# Altium footprint library IntegratedCircuites.PcbLib: 74 footprints (part 2 of 5)
Each footprint in its own frame and in the unit in brackets; x right, y up, seen from the top. Pads: shape width x height; smd on the part's side, far side on the other; paste and mask are expansions set on the pad; w line width, h text height; cw(c..) or ccw(c..) is an arc to the next point about the centre after c.
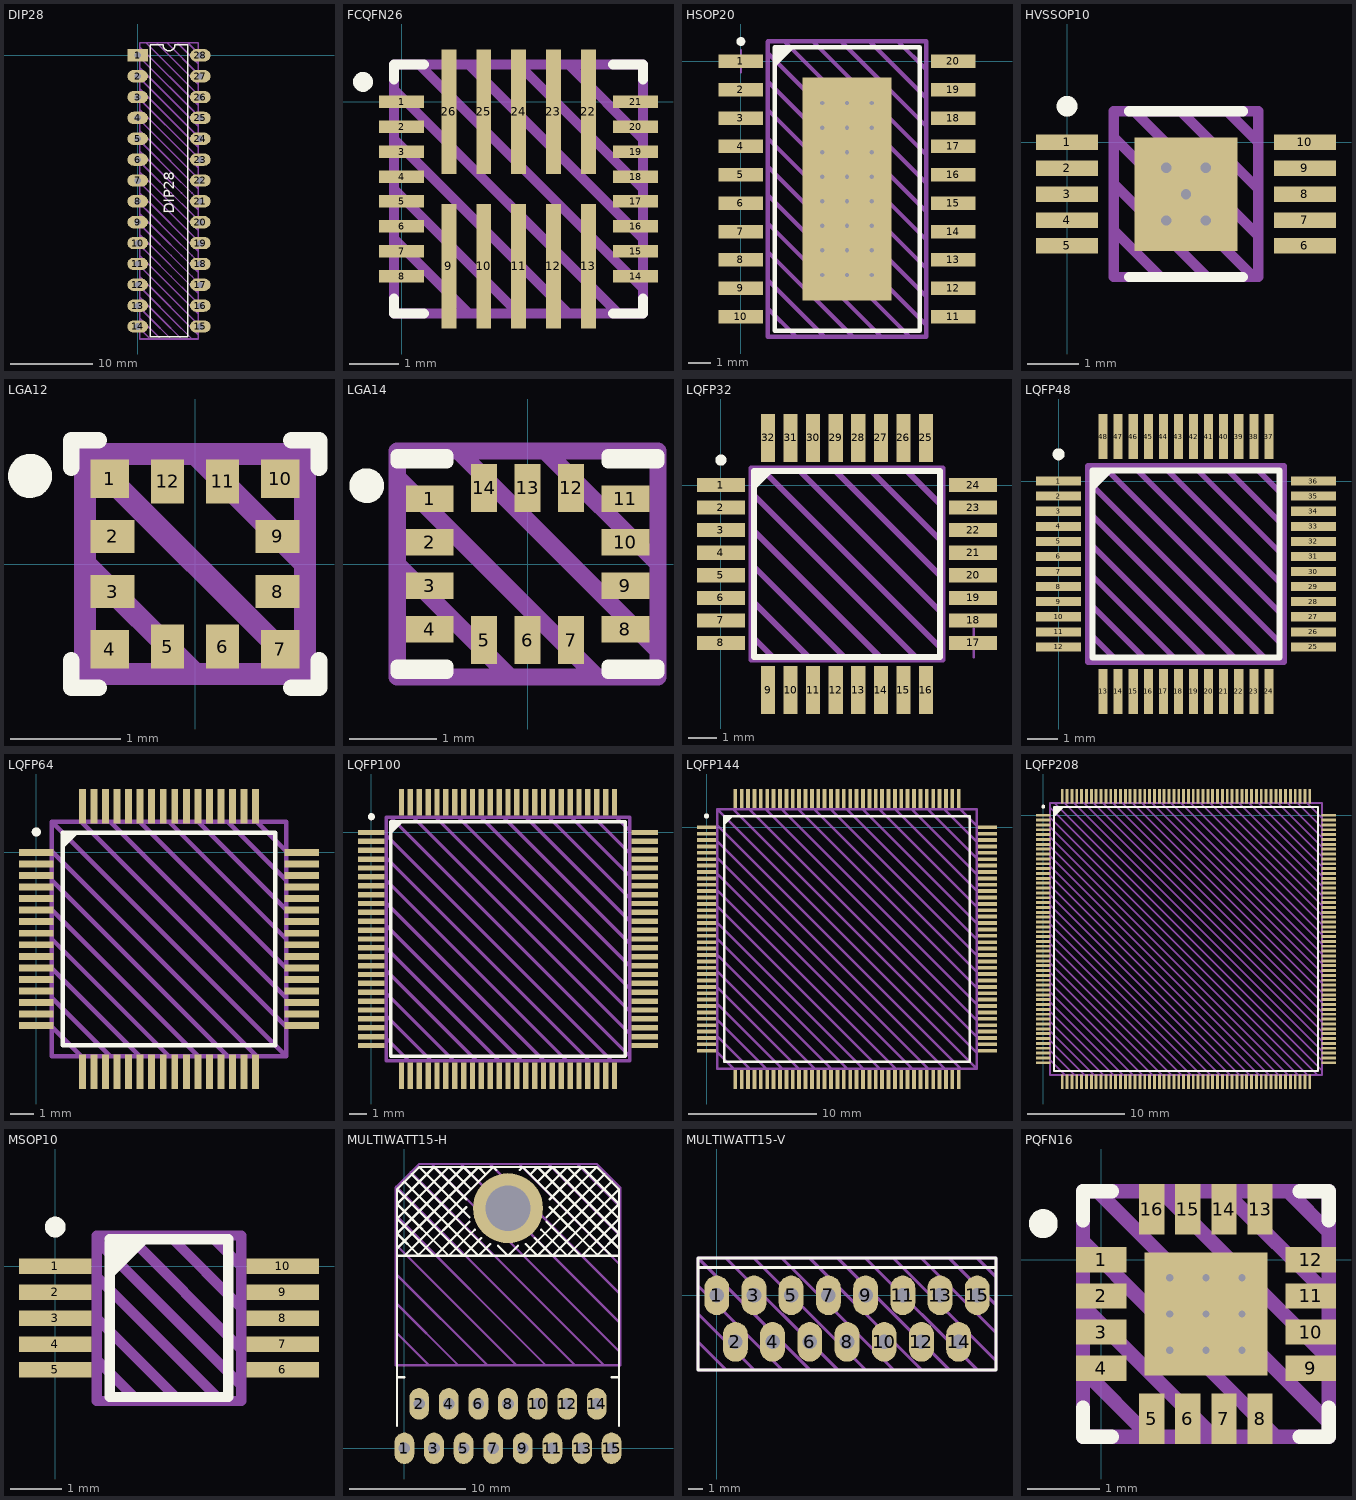
[diagram p1: the footprints below, top view; thin cyan lines are the x and y axes]

## DIP28 [mm]
pads (28):
  rect 2.5x1.5 hole 0.8: 1(0,0)
  oval 2.5x1.5 hole 0.8: 2(0,-2.54) 3(0,-5.08) 4(0,-7.62) 5(0,-10.16) 6(0,-12.7) 7(0,-15.24) 8(0,-17.78) 9(0,-20.32) 10(0,-22.86) 11(0,-25.4) 12(0,-27.94) 13(0,-30.48) 14(0,-33.02) 15(7.62,-33.02) 16(7.62,-30.48) 17(7.62,-27.94) 18(7.62,-25.4) 19(7.62,-22.86) 20(7.62,-20.32) 21(7.62,-17.78) 22(7.62,-15.24) 23(7.62,-12.7) 24(7.62,-10.16) 25(7.62,-7.62) 26(7.62,-5.08) 27(7.62,-2.54) 28(7.62,0)
Top Overlay:
  lines w0.2: 3.048,1.27 1.524,1.27 1.524,-34.29 6.096,-34.29 6.096,1.27 4.572,1.27 ; 3.092,1.27 ccw(c3.81,1.27) 4.528,1.27
  text "DIP28" at 4.445,-19.304 h1.27
Top Draw:
  lines w0.2: 0.254,-33.274 1.524,-34.544 ; 0.254,-32.004 2.794,-34.544 ; 0.254,-30.734 1.524,-32.004 4.064,-34.544 ; 0.254,-29.464 2.794,-32.004 5.334,-34.544 ; 0.254,-28.194 1.524,-29.464 4.064,-32.004 6.604,-34.544 ; 0.254,-26.924 2.794,-29.464 5.334,-32.004 7.366,-34.036 ; 0.254,-25.654 1.524,-26.924 4.064,-29.464 6.604,-32.004 7.366,-32.766 ; 0.254,-24.384 2.794,-26.924 5.334,-29.464 7.366,-31.496 ; 0.254,-23.114 1.524,-24.384 4.064,-26.924 6.604,-29.464 7.366,-30.226 ; 0.254,-21.844 2.794,-24.384 5.334,-26.924 7.366,-28.956 ; 0.254,-20.574 1.524,-21.844 4.064,-24.384 6.604,-26.924 7.366,-27.686 ; 0.254,-19.304 2.794,-21.844 5.334,-24.384 7.366,-26.416 ; 0.254,-18.034 1.524,-19.304 4.064,-21.844 6.604,-24.384 7.366,-25.146 ; 0.254,-16.764 2.794,-19.304 5.334,-21.844 7.366,-23.876 ; 0.254,-15.494 1.524,-16.764 4.064,-19.304 6.604,-21.844 7.366,-22.606 ; 0.254,-14.224 2.794,-16.764 5.334,-19.304 7.366,-21.336 ; 0.254,-12.954 1.524,-14.224 4.064,-16.764 6.604,-19.304 7.366,-20.066 ; 0.254,-11.684 2.794,-14.224 5.334,-16.764 7.366,-18.796 ; 0.254,-10.414 1.524,-11.684 ; 0.254,-9.144 2.794,-11.684 ; 0.254,-7.874 4.064,-11.684 6.604,-14.224 7.366,-14.986 ; 0.254,-6.604 5.334,-11.684 7.366,-13.716 ; 0.254,-5.334 6.604,-11.684 7.366,-12.446 ; 0.254,-4.064 7.366,-11.176 ; 0.254,-2.794 7.366,-9.906 ; 0.254,-1.524 7.366,-8.636 ; 0.254,-0.254 7.366,-7.366 ; 0.254,1.016 7.366,-6.096 ; 1.016,1.524 7.366,-4.826 ; 2.286,1.524 7.366,-3.556 ; 3.556,1.524 7.366,-2.286 ; 4.826,1.524 7.366,-1.016 ; 6.096,1.524 7.366,0.254 ; 7.366,-17.526 6.604,-16.764 4.064,-14.224 ; 7.366,-16.256 5.334,-14.224 ; 2.794,-11.684 5.334,-14.224 ; 2.794,-11.684 5.334,-14.224 ; 4.064,-14.224 1.27,-11.43 4.064,-14.224 ; 0.254,-34.544 7.366,-34.544 7.366,1.524 0.254,1.524 0.254,-34.544
Top Info:
  text "'.Comment'" at -0.381,-35.941 h1
3D body: height 0.38, standoff -3, extent 7.493,-30.734 7.747,-30.226
3D body: height 2.09, standoff 0.31, extent 7.112,-30.98 7.747,-29.98
3D body: height 0.38, standoff -3, extent 7.493,-33.274 7.747,-32.766
3D body: height 2.09, standoff 0.31, extent 7.112,-33.52 7.747,-32.52
3D body: height 0.38, standoff -3, extent -0.127,-33.274 0.127,-32.766
3D body: height 2.09, standoff 0.31, extent -0.127,-33.52 0.508,-32.52
3D body: height 0.38, standoff -3, extent -0.127,-30.734 0.127,-30.226
3D body: height 2.09, standoff 0.31, extent -0.127,-30.98 0.508,-29.98
3D body: height 0.38, standoff -3, extent 7.493,-20.574 7.747,-20.066
3D body: height 2.09, standoff 0.31, extent 7.112,-20.82 7.747,-19.82
3D body: height 0.38, standoff -3, extent 7.493,-23.114 7.747,-22.606
3D body: height 2.09, standoff 0.31, extent 7.112,-23.36 7.747,-22.36
3D body: height 0.38, standoff -3, extent -0.127,-23.114 0.127,-22.606
3D body: height 2.09, standoff 0.31, extent -0.127,-23.36 0.508,-22.36
3D body: height 0.38, standoff -3, extent -0.127,-20.574 0.127,-20.066
3D body: height 2.09, standoff 0.31, extent -0.127,-20.82 0.508,-19.82
3D body: height 0.38, standoff -3, extent 7.493,-25.654 7.747,-25.146
3D body: height 2.09, standoff 0.31, extent 7.112,-25.9 7.747,-24.9
3D body: height 0.38, standoff -3, extent 7.493,-28.194 7.747,-27.686
3D body: height 2.09, standoff 0.31, extent 7.112,-28.44 7.747,-27.44
3D body: height 0.38, standoff -3, extent -0.127,-28.194 0.127,-27.686
3D body: height 2.09, standoff 0.31, extent -0.127,-28.44 0.508,-27.44
3D body: height 0.38, standoff -3, extent -0.127,-25.654 0.127,-25.146
3D body: height 2.09, standoff 0.31, extent -0.127,-25.9 0.508,-24.9
3D body: height 0.38, standoff -3, extent 7.493,-10.414 7.747,-9.906
3D body: height 2.09, standoff 0.31, extent 7.112,-10.66 7.747,-9.66
3D body: height 0.38, standoff -3, extent 7.493,-12.954 7.747,-12.446
3D body: height 2.09, standoff 0.31, extent 7.112,-13.2 7.747,-12.2
3D body: height 0.38, standoff -3, extent -0.127,-12.954 0.127,-12.446
3D body: height 2.09, standoff 0.31, extent -0.127,-13.2 0.508,-12.2
3D body: height 0.38, standoff -3, extent -0.127,-10.414 0.127,-9.906
3D body: height 2.09, standoff 0.31, extent -0.127,-10.66 0.508,-9.66
3D body: height 0.38, standoff -3, extent 7.493,-15.494 7.747,-14.986
3D body: height 2.09, standoff 0.31, extent 7.112,-15.74 7.747,-14.74
3D body: height 0.38, standoff -3, extent 7.493,-18.034 7.747,-17.526
3D body: height 2.09, standoff 0.31, extent 7.112,-18.28 7.747,-17.28
3D body: height 0.38, standoff -3, extent -0.127,-18.034 0.127,-17.526
3D body: height 2.09, standoff 0.31, extent -0.127,-18.28 0.508,-17.28
3D body: height 0.38, standoff -3, extent -0.127,-15.494 0.127,-14.986
3D body: height 2.09, standoff 0.31, extent -0.127,-15.74 0.508,-14.74
3D body: height 0.38, standoff -3, extent 7.493,-0.254 7.747,0.254
3D body: height 2.09, standoff 0.31, extent 7.112,-0.5 7.747,0.5
3D body: height 0.38, standoff -3, extent 7.493,-2.794 7.747,-2.286
3D body: height 2.09, standoff 0.31, extent 7.112,-3.04 7.747,-2.04
3D body: height 0.38, standoff -3, extent -0.127,-2.794 0.127,-2.286
3D body: height 2.09, standoff 0.31, extent -0.127,-3.04 0.508,-2.04
3D body: height 0.38, standoff -3, extent -0.127,-0.254 0.127,0.254
3D body: height 2.09, standoff 0.31, extent -0.127,-0.5 0.508,0.5
3D body: height 0.38, standoff -3, extent 7.493,-5.334 7.747,-4.826
3D body: height 2.09, standoff 0.31, extent 7.112,-5.58 7.747,-4.58
3D body: height 0.38, standoff -3, extent 7.493,-7.874 7.747,-7.366
3D body: height 2.09, standoff 0.31, extent 7.112,-8.12 7.747,-7.12
3D body: height 0.38, standoff -3, extent -0.127,-7.874 0.127,-7.366
3D body: height 2.09, standoff 0.31, extent -0.127,-8.12 0.508,-7.12
3D body: height 0.38, standoff -3, extent -0.127,-5.334 0.127,-4.826
3D body: height 2.09, standoff 0.31, extent -0.127,-5.58 0.508,-4.58
3D body: height 2.03, standoff 0.25, extent 0.508,-34.29 7.112,1.27
3D body: height 3, standoff 2, extent 0.508,-34.29 7.112,1.27

## FCQFN26 [mm]
pads (26):
  rect 0.9x0.25 smd mask+0.07: 1(0,0) 2(0,-0.5) 3(0,-1) 4(0,-1.5) 5(0,-2) 6(0,-2.5) 7(0,-3) 8(0,-3.5) 14(4.7,-3.5) 15(4.7,-3) 16(4.7,-2.5) 17(4.7,-2) 18(4.7,-1.5) 19(4.7,-1) 20(4.7,-0.5) 21(4.7,0)
  rect 0.3x2.5 smd mask+0.07: 9(0.95,-3.3) 10(1.65,-3.3) 11(2.35,-3.3) 12(3.05,-3.3) 13(3.75,-3.3) 22(3.75,-0.2) 23(3.05,-0.2) 24(2.35,-0.2) 25(1.65,-0.2) 26(0.95,-0.2)
Top Overlay:
  circle w0.2: c-0.775,0.4 r0.1
  lines w0.2: -0.15,-3.95 -0.15,-4.25 0.45,-4.25 ; -0.15,0.45 -0.15,0.75 0.45,0.75 ; 4.25,-4.25 4.85,-4.25 4.85,-3.95 ; 4.25,0.75 4.85,0.75 4.85,0.45
Top Draw:
  lines w0.2: -0.15,-2.75 1.35,-4.25 ; -0.15,-1.75 2.35,-4.25 ; -0.15,-0.75 3.35,-4.25 ; -0.15,0.25 4.35,-4.25 ; 0.35,0.75 4.85,-3.75 ; 1.35,0.75 4.85,-2.75 ; 2.35,0.75 4.85,-1.75 ; 3.35,0.75 4.85,-0.75 ; -0.15,-4.25 -0.15,0.75 4.85,0.75 4.85,-4.25 -0.15,-4.25
Top Info:
  text "'.Comment'" at -1.049,-5.767 h0.8
3D body "MP6540H.step": height 1, standoff 0, extent -0.15,-4.25 4.85,0.75

## HSOP20 [mm]
height 2.5
pads (21):
  rect 2x0.6 smd: 1(0,0) 2(0,-1.27) 3(0,-2.54) 4(0,-3.81) 5(0,-5.08) 6(0,-6.35) 7(0,-7.62) 8(0,-8.89) 9(0,-10.16) 10(0,-11.43) 11(9.5,-11.43) 12(9.5,-10.16) 13(9.5,-8.89) 14(9.5,-7.62) 15(9.5,-6.35) 16(9.5,-5.08) 17(9.5,-3.81) 18(9.5,-2.54) 19(9.5,-1.27) 20(9.5,0)
  rect 4x10 smd: ""(4.75,-5.715)
via 3.65,-9.565 diameter 0.5 hole 0.2
via 4.75,-9.565 diameter 0.5 hole 0.2
via 5.85,-9.565 diameter 0.5 hole 0.2
via 3.65,-8.465 diameter 0.5 hole 0.2
via 4.75,-8.465 diameter 0.5 hole 0.2
via 5.85,-8.465 diameter 0.5 hole 0.2
via 3.65,-1.865 diameter 0.5 hole 0.2
via 4.75,-1.865 diameter 0.5 hole 0.2
via 5.85,-1.865 diameter 0.5 hole 0.2
via 3.65,-2.965 diameter 0.5 hole 0.2
via 4.75,-2.965 diameter 0.5 hole 0.2
via 5.85,-2.965 diameter 0.5 hole 0.2
via 3.65,-4.065 diameter 0.5 hole 0.2
via 4.75,-4.065 diameter 0.5 hole 0.2
via 5.85,-4.065 diameter 0.5 hole 0.2
via 3.65,-5.165 diameter 0.5 hole 0.2
via 4.75,-5.165 diameter 0.5 hole 0.2
via 5.85,-5.165 diameter 0.5 hole 0.2
via 3.65,-6.265 diameter 0.5 hole 0.2
via 4.75,-6.265 diameter 0.5 hole 0.2
via 5.85,-6.265 diameter 0.5 hole 0.2
via 3.65,-7.365 diameter 0.5 hole 0.2
via 4.75,-7.365 diameter 0.5 hole 0.2
via 5.85,-7.365 diameter 0.5 hole 0.2
Top Overlay:
  circle w0.2: c0,0.889 r0.1
  region: 1.524,-0.254 2.413,0.635 1.524,0.635
  lines w0.2: 1.524,-12.065 1.524,0.635 8.001,0.635 8.001,-12.065 1.524,-12.065
Top Draw:
  lines w0.2: 1.194,-11.049 2.464,-12.319 ; 1.194,-9.779 3.734,-12.319 ; 1.194,-8.509 5.004,-12.319 ; 1.194,-7.239 6.274,-12.319 ; 1.194,-5.969 7.544,-12.319 ; 1.194,-4.699 8.306,-11.811 ; 1.194,-3.429 8.306,-10.541 ; 1.194,-2.159 8.306,-9.271 ; 1.194,-0.889 8.306,-8.001 ; 1.194,0.381 8.306,-6.731 ; 1.194,0.87 1.194,-12.319 8.306,-12.319 8.306,0.889 1.213,0.889 ; 1.956,0.889 8.306,-5.461 ; 3.226,0.889 8.306,-4.191 ; 4.496,0.889 8.306,-2.921 ; 5.766,0.889 8.306,-1.651 ; 7.036,0.889 8.306,-0.381
Top Info:
  text "'.Comment'" at 0.559,-13.716 h1
Mechanical 15:
  lines w0.1: -0.5,0 0.5,0 ; 0,-0.5 0,0.5
3D body "SOP127P600-8N.step": height 2.5, standoff 0, extent -0.45,-12.215 9.95,0.785

## HVSSOP10 [mm]
height 1.1
pads (11):
  rect 1.2x0.3 smd: 1(0,0) 2(0,-0.5) 3(0,-1) 4(0,-1.5) 5(0,-2) 6(4.6,-2) 7(4.6,-1.5) 8(4.6,-1) 9(4.6,-0.5) 10(4.6,0)
  rect 2x2.2 smd: ""(2.3,-1)
via 1.919,-0.492 diameter 0.4 hole 0.2
via 2.681,-0.492 diameter 0.4 hole 0.2
via 2.681,-1.508 diameter 0.4 hole 0.2
via 1.919,-1.508 diameter 0.4 hole 0.2
via 2.3,-1 diameter 0.4 hole 0.2
Top Overlay:
  circle w0.2: c0,0.7 r0.1
  lines w0.2: 1.2,-2.6 3.4,-2.6 ; 1.2,0.6 3.4,0.6
Top Draw:
  lines w0.2: 0.9,-1.7 1.8,-2.6 ; 0.9,-0.8 2.7,-2.6 ; 0.9,0.1 3.6,-2.6 ; 1.3,0.6 3.7,-1.8 ; 2.2,0.6 3.7,-0.9 ; 3.1,0.6 3.7,0 ; 0.9,-2.6 0.9,0.6 3.7,0.6 3.7,-2.6 0.9,-2.6
Top Info:
  text "'.Comment'" at -0.886,-3.737 h0.75
3D body "HVSSOP10.step": height 1.1, standoff 0, extent -0.162,-2.55 4.763,0.55

## LGA12 [mm]
pads (12):
  rect 0.35x0.35 smd paste+0: 1(-0.775,0.775) 4(-0.775,-0.775) 7(0.775,-0.775) 10(0.775,0.775)
  rect 0.4x0.3 smd paste+0: 2(-0.75,0.25) 3(-0.75,-0.25) 8(0.75,-0.25) 9(0.75,0.25)
  rect 0.3x0.4 smd paste+0: 5(-0.25,-0.75) 6(0.25,-0.75) 11(0.25,0.75) 12(-0.25,0.75)
Top Overlay:
  circle w0.2: c-1.5,0.8 r0.1
  lines w0.15: -1.125,-0.875 -1.125,-1.125 -0.875,-1.125 ; -1.125,0.875 -1.125,1.125 -0.875,1.125 ; 0.875,-1.125 1.125,-1.125 1.125,-0.875 ; 0.875,1.125 1.125,1.125 1.125,0.875
Top Draw:
  lines w0.2: -1,0 0,-1 ; 0,1 1,0 ; -1,1 1,-1 ; -1,1 -1,-1 1,-1 ; -1,1 1,1 1,-1
Top Info:
  text "'.Comment'" at -2.124,-1.892 h0.5
3D body "VLGA-12_MEM.step": height 0.99, standoff 0, extent -1.003,-1.003 1.003,1.003

## LGA14 [mm]
height 1
pads (14):
  rect 0.55x0.3 smd: 1(-1.125,0.75) 2(-1.125,0.25) 3(-1.125,-0.25) 4(-1.125,-0.75) 8(1.125,-0.75) 9(1.125,-0.25) 10(1.125,0.25) 11(1.125,0.75)
  rect 0.3x0.55 smd: 5(-0.5,-0.875) 6(0,-0.875) 7(0.5,-0.875) 12(0.5,0.875) 13(0,0.875) 14(-0.5,0.875)
Top Overlay:
  circle w0.2: c-1.85,0.9 r0.1
  lines w0.15: -1.5,-1.25 -1.5,-1.175 -0.925,-1.175 -0.925,-1.25 -1.5,-1.25 ; -1.5,1.175 -1.5,1.25 -0.925,1.25 -0.925,1.175 -1.5,1.175 ; 0.925,-1.25 0.925,-1.175 1.5,-1.175 1.5,-1.25 0.925,-1.25 ; 0.925,1.175 0.925,1.25 1.5,1.25 1.5,1.175 0.925,1.175
Top Draw:
  lines w0.2: -1.5,0 -0.2,-1.3 ; -1.5,1 0.8,-1.3 ; -0.8,1.3 1.5,-1 ; 0.2,1.3 1.5,0 ; -1.5,-1.3 -1.5,1.3 1.5,1.3 1.5,-1.3 -1.5,-1.3
Top Info:
  text "'.Comment'" at -3.186,-2.337 h0.75
3D body "PQFN50P300X250X100-14N.step": height 1, standoff 0, extent -1.5,-1.25 1.5,1.25

## LQFP32 [mm]
pads (32):
  rect 1.7x0.5 smd: 1(0,0) 2(0,-0.8) 3(0,-1.6) 4(0,-2.4) 5(0,-3.2) 6(0,-4) 7(0,-4.8) 8(0,-5.6) 17(8.95,-5.6) 18(8.95,-4.8) 19(8.95,-4) 20(8.95,-3.2) 21(8.95,-2.4) 22(8.95,-1.6) 23(8.95,-0.8) 24(8.95,0)
  rect 0.5x1.7 smd: 9(1.675,-7.275) 10(2.475,-7.275) 11(3.275,-7.275) 12(4.075,-7.275) 13(4.875,-7.275) 14(5.675,-7.275) 15(6.475,-7.275) 16(7.275,-7.275) 25(7.275,1.675) 26(6.475,1.675) 27(5.675,1.675) 28(4.875,1.675) 29(4.075,1.675) 30(3.275,1.675) 31(2.475,1.675) 32(1.675,1.675)
Top Overlay:
  circle w0.2: c0,0.889 r0.1
  region: 1.175,0.5 1.175,-0.188 1.863,0.5
  lines w0.2: 1.175,-6.1 1.175,0.5 7.775,0.5 7.775,-6.1 1.175,-6.1
Top Draw:
  lines w0.2: 1.075,-5.34 1.935,-6.2 ; 1.075,-4.07 3.205,-6.2 ; 1.075,-2.8 4.475,-6.2 ; 1.075,-1.53 5.745,-6.2 ; 1.075,-0.26 7.015,-6.2 ; 1.427,0.6 7.875,-5.848 ; 2.697,0.6 7.875,-4.578 ; 3.967,0.6 7.875,-3.308 ; 5.237,0.6 7.875,-2.038 ; 6.507,0.6 7.875,-0.768 7.875,-1.022 ; 7.875,-2.038 7.875,-2.038 ; 1.075,-6.2 1.075,0.6 7.875,0.6 7.875,-6.2 1.075,-6.2
Top Info:
  text "'.Comment'" at 1.314,-9.237 h0.75
Mechanical 15:
  lines w0.1: 8.475,-5.6 9.475,-5.6 ; 8.975,-6.1 8.975,-5.1
3D body "LQFP322.step": height 1.6, standoff 0, extent -0.375,-7.65 9.325,2.05

## LQFP48 [mm]
height 1.6
pads (48):
  rect 1.5x0.3 smd: 1(0,0) 2(0,-0.5) 3(0,-1) 4(0,-1.5) 5(0,-2) 6(0,-2.5) 7(0,-3) 8(0,-3.5) 9(0,-4) 10(0,-4.5) 11(0,-5) 12(0,-5.5) 25(8.45,-5.5) 26(8.45,-5) 27(8.45,-4.5) 28(8.45,-4) 29(8.45,-3.5) 30(8.45,-3) 31(8.45,-2.5) 32(8.45,-2) 33(8.45,-1.5) 34(8.45,-1) 35(8.45,-0.5) 36(8.45,0)
  rect 0.3x1.5 smd: 13(1.475,-6.975) 14(1.975,-6.975) 15(2.475,-6.975) 16(2.975,-6.975) 17(3.475,-6.975) 18(3.975,-6.975) 19(4.475,-6.975) 20(4.975,-6.975) 21(5.475,-6.975) 22(5.975,-6.975) 23(6.475,-6.975) 24(6.975,-6.975) 37(6.975,1.475) 38(6.475,1.475) 39(5.975,1.475) 40(5.475,1.475) 41(4.975,1.475) 42(4.475,1.475) 43(3.975,1.475) 44(3.475,1.475) 45(2.975,1.475) 46(2.475,1.475) 47(1.975,1.475) 48(1.475,1.475)
Top Overlay:
  circle w0.2: c0,0.889 r0.1
  region: 1.125,0.35 1.125,-0.338 1.813,0.35
  lines w0.2: 1.125,-5.85 1.125,0.35 7.325,0.35 7.325,-5.85 1.125,-5.85
Top Draw:
  lines w0.2: 0.975,-5 1.975,-6 2.475,-6 ; 0.975,-4 2.975,-6 3.225,-6 ; 0.975,-3 3.975,-6 4.225,-6 ; 0.975,-2 4.975,-6 5.225,-6 ; 0.975,-1 5.975,-6 6.225,-6 ; 0.975,0 6.975,-6 7.225,-6 ; 1.475,0.5 7.475,-5.5 7.475,-5.75 ; 1.725,0.5 2.475,0.5 7.475,-4.5 ; 3.475,0.5 7.475,-3.5 7.475,-4 ; 4.475,0.5 7.475,-2.5 7.475,-4.25 ; 5.475,0.5 7.475,-1.5 ; 6.475,0.5 7.475,-0.5 ; 0.975,-6 7.475,-6 7.475,0.5 0.975,0.5 0.975,-6
Top Info:
  text "'.Comment'" at -0.22,-9.227 h1
3D body "LQFP48.step": height 1.6, standoff 0, extent -0.275,-7.25 8.725,1.75

## LQFP64 [mm]
height 1.6
pads (64):
  rect 1.5x0.3 smd: 1(0,0) 2(0,-0.5) 3(0,-1) 4(0,-1.5) 5(0,-2) 6(0,-2.5) 7(0,-3) 8(0,-3.5) 9(0,-4) 10(0,-4.5) 11(0,-5) 12(0,-5.5) 13(0,-6) 14(0,-6.5) 15(0,-7) 16(0,-7.5) 33(11.5,-7.5) 34(11.5,-7) 35(11.5,-6.5) 36(11.5,-6) 37(11.5,-5.5) 38(11.5,-5) 39(11.5,-4.5) 40(11.5,-4) 41(11.5,-3.5) 42(11.5,-3) 43(11.5,-2.5) 44(11.5,-2) 45(11.5,-1.5) 46(11.5,-1) 47(11.5,-0.5) 48(11.5,0)
  rect 0.3x1.5 smd: 17(2,-9.5) 18(2.5,-9.5) 19(3,-9.5) 20(3.5,-9.5) 21(4,-9.5) 22(4.5,-9.5) 23(5,-9.5) 24(5.5,-9.5) 25(6,-9.5) 26(6.5,-9.5) 27(7,-9.5) 28(7.5,-9.5) 29(8,-9.5) 30(8.5,-9.5) 31(9,-9.5) 32(9.5,-9.5) 49(9.5,2) 50(9,2) 51(8.5,2) 52(8,2) 53(7.5,2) 54(7,2) 55(6.5,2) 56(6,2) 57(5.5,2) 58(5,2) 59(4.5,2) 60(4,2) 61(3.5,2) 62(3,2) 63(2.5,2) 64(2,2)
Top Overlay:
  circle w0.2: c0,0.889 r0.1
  region: 1.15,0.85 1.15,0.162 1.838,0.85
  lines w0.2: 1.15,-8.35 10.35,-8.35 10.35,0.85 1.15,0.85 1.15,-8.35
Top Draw:
  lines w0.2: 0.67,-7.56 1.94,-8.83 0.67,-8.83 ; 0.67,-6.29 3.21,-8.83 ; 0.67,-5.02 4.48,-8.83 5.75,-8.83 0.67,-3.75 ; 0.67,-2.48 7.02,-8.83 8.29,-8.83 0.67,-1.21 ; 0.67,0.06 9.56,-8.83 ; 1.94,1.33 10.83,-7.56 10.83,-6.29 ; 3.21,1.33 10.83,-6.29 ; 4.48,1.33 10.83,-5.02 ; 5.75,1.33 10.83,-3.75 10.83,-5.02 ; 7.02,1.33 10.83,-2.48 ; 8.29,1.33 10.83,-1.21 10.83,-2.48 ; 9.56,1.33 10.83,0.06 ; 0.67,-8.83 0.67,1.33 ; 0.67,-8.83 10.83,-8.83 ; 0.67,1.33 10.83,1.33 10.83,-8.83 ; 0.67,1.33 10.83,-8.83 ; 10.83,-6.29 10.83,-5.02 ; 10.83,-5.02 10.83,-2.48
Top Info:
  text "'.Comment'" at 0.762,-11.684 h1
3D body "QFP127P600-8N.step": height 1.6, standoff 0, extent -0.25,-9.75 11.75,2.25

## LQFP100 [mm]
height 1.6
pads (100):
  rect 1.5x0.3 smd: 1(0,0) 2(0,-0.5) 3(0,-1) 4(0,-1.5) 5(0,-2) 6(0,-2.5) 7(0,-3) 8(0,-3.5) 9(0,-4) 10(0,-4.5) 11(0,-5) 12(0,-5.5) 13(0,-6) 14(0,-6.5) 15(0,-7) 16(0,-7.5) 17(0,-8) 18(0,-8.5) 19(0,-9) 20(0,-9.5) 21(0,-10) 22(0,-10.5) 23(0,-11) 24(0,-11.5) 25(0,-12) 51(15.4,-12) 52(15.4,-11.5) 53(15.4,-11) 54(15.4,-10.5) 55(15.4,-10) 56(15.4,-9.5) 57(15.4,-9) 58(15.4,-8.5) 59(15.4,-8) 60(15.4,-7.5) 61(15.4,-7) 62(15.4,-6.5) 63(15.4,-6) 64(15.4,-5.5) 65(15.4,-5) 66(15.4,-4.5) 67(15.4,-4) 68(15.4,-3.5) 69(15.4,-3) 70(15.4,-2.5) 71(15.4,-2) 72(15.4,-1.5) 73(15.4,-1) 74(15.4,-0.5) 75(15.4,0)
  rect 0.3x1.5 smd: 26(1.7,-13.7) 27(2.2,-13.7) 28(2.7,-13.7) 29(3.2,-13.7) 30(3.7,-13.7) 31(4.2,-13.7) 32(4.7,-13.7) 33(5.2,-13.7) 34(5.7,-13.7) 35(6.2,-13.7) 36(6.7,-13.7) 37(7.2,-13.7) 38(7.7,-13.7) 39(8.2,-13.7) 40(8.7,-13.7) 41(9.2,-13.7) 42(9.7,-13.7) 43(10.2,-13.7) 44(10.7,-13.7) 45(11.2,-13.7) 46(11.7,-13.7) 47(12.2,-13.7) 48(12.7,-13.7) 49(13.2,-13.7) 50(13.7,-13.7) 76(13.7,1.7) 77(13.2,1.7) 78(12.7,1.7) 79(12.2,1.7) 80(11.7,1.7) 81(11.2,1.7) 82(10.7,1.7) 83(10.2,1.7) 84(9.7,1.7) 85(9.2,1.7) 86(8.7,1.7) 87(8.2,1.7) 88(7.7,1.7) 89(7.2,1.7) 90(6.7,1.7) 91(6.2,1.7) 92(5.7,1.7) 93(5.2,1.7) 94(4.7,1.7) 95(4.2,1.7) 96(3.7,1.7) 97(3.2,1.7) 98(2.7,1.7) 99(2.2,1.7) 100(1.7,1.7)
Top Overlay:
  circle w0.2: c0,0.889 r0.1
  region: 1.1,0.6 1.1,-0.088 1.788,0.6
  lines w0.2: 1.1,-12.6 1.1,0.6 14.3,0.6 14.3,-12.6 1.1,-12.6
Top Draw:
  lines w0.2: 0.842,-11.588 2.112,-12.858 ; 0.842,-10.318 3.382,-12.858 ; 0.842,-9.048 4.652,-12.858 ; 0.842,-7.778 5.922,-12.858 ; 0.842,-6.508 7.192,-12.858 ; 0.842,-5.238 8.462,-12.858 ; 0.842,-3.968 9.732,-12.858 ; 0.842,-2.698 11.002,-12.858 ; 0.842,-1.428 12.272,-12.858 ; 0.842,-0.158 13.542,-12.858 ; 1.096,0.858 14.558,-12.604 ; 2.366,0.858 14.558,-11.334 ; 3.636,0.858 14.558,-10.064 ; 4.906,0.858 14.558,-8.794 ; 6.176,0.858 14.558,-7.524 ; 7.446,0.858 14.558,-6.254 ; 8.716,0.858 14.558,-4.984 ; 9.986,0.858 14.558,-3.714 ; 11.256,0.858 14.558,-2.444 ; 12.526,0.858 14.558,-1.174 ; 13.796,0.858 14.558,0.096 ; 0.842,-12.858 14.558,-12.858 14.558,0.858 0.842,0.858 0.842,-12.858
Top Info:
  text "'.Comment'" at 0.461,-16.16 h1.25
3D body "LQFP100.step": height 1.6, standoff 0, extent -0.3,-14 15.7,2

## LQFP144 [mm]
height 1.6
pads (144):
  rect 1.5x0.3 smd: 1(0,0) 2(0,-0.5) 3(0,-1) 4(0,-1.5) 5(0,-2) 6(0,-2.5) 7(0,-3) 8(0,-3.5) 9(0,-4) 10(0,-4.5) 11(0,-5) 12(0,-5.5) 13(0,-6) 14(0,-6.5) 15(0,-7) 16(0,-7.5) 17(0,-8) 18(0,-8.5) 19(0,-9) 20(0,-9.5) 21(0,-10) 22(0,-10.5) 23(0,-11) 24(0,-11.5) 25(0,-12) 26(0,-12.5) 27(0,-13) 28(0,-13.5) 29(0,-14) 30(0,-14.5) 31(0,-15) 32(0,-15.5) 33(0,-16) 34(0,-16.5) 35(0,-17) 36(0,-17.5) 73(22,-17.5) 74(22,-17) 75(22,-16.5) 76(22,-16) 77(22,-15.5) 78(22,-15) 79(22,-14.5) 80(22,-14) 81(22,-13.5) 82(22,-13) 83(22,-12.5) 84(22,-12) 85(22,-11.5) 86(22,-11) 87(22,-10.5) 88(22,-10) 89(22,-9.5) 90(22,-9) 91(22,-8.5) 92(22,-8) 93(22,-7.5) 94(22,-7) 95(22,-6.5) 96(22,-6) 97(22,-5.5) 98(22,-5) 99(22,-4.5) 100(22,-4) 101(22,-3.5) 102(22,-3) 103(22,-2.5) 104(22,-2) 105(22,-1.5) 106(22,-1) 107(22,-0.5) 108(22,0)
  rect 0.3x1.5 smd: 37(2.25,-19.75) 38(2.75,-19.75) 39(3.25,-19.75) 40(3.75,-19.75) 41(4.25,-19.75) 42(4.75,-19.75) 43(5.25,-19.75) 44(5.75,-19.75) 45(6.25,-19.75) 46(6.75,-19.75) 47(7.25,-19.75) 48(7.75,-19.75) 49(8.25,-19.75) 50(8.75,-19.75) 51(9.25,-19.75) 52(9.75,-19.75) 53(10.25,-19.75) 54(10.75,-19.75) 55(11.25,-19.75) 56(11.75,-19.75) 57(12.25,-19.75) 58(12.75,-19.75) 59(13.25,-19.75) 60(13.75,-19.75) 61(14.25,-19.75) 62(14.75,-19.75) 63(15.25,-19.75) 64(15.75,-19.75) 65(16.25,-19.75) 66(16.75,-19.75) 67(17.25,-19.75) 68(17.75,-19.75) 69(18.25,-19.75) 70(18.75,-19.75) 71(19.25,-19.75) 72(19.75,-19.75) 109(19.75,2.25) 110(19.25,2.25) 111(18.75,2.25) 112(18.25,2.25) 113(17.75,2.25) 114(17.25,2.25) 115(16.75,2.25) 116(16.25,2.25) 117(15.75,2.25) 118(15.25,2.25) 119(14.75,2.25) 120(14.25,2.25) 121(13.75,2.25) 122(13.25,2.25) 123(12.75,2.25) 124(12.25,2.25) 125(11.75,2.25) 126(11.25,2.25) 127(10.75,2.25) 128(10.25,2.25) 129(9.75,2.25) 130(9.25,2.25) 131(8.75,2.25) 132(8.25,2.25) 133(7.75,2.25) 134(7.25,2.25) 135(6.75,2.25) 136(6.25,2.25) 137(5.75,2.25) 138(5.25,2.25) 139(4.75,2.25) 140(4.25,2.25) 141(3.75,2.25) 142(3.25,2.25) 143(2.75,2.25) 144(2.25,2.25)
Top Overlay:
  circle w0.2: c0,0.889 r0.1
  region: 1.4,0.85 1.4,0.162 2.088,0.85
  lines w0.2: 1.4,-18.35 1.4,0.85 20.6,0.85 20.6,-18.35 1.4,-18.35
Top Draw:
  lines w0.2: 0.84,-17.64 2.11,-18.91 ; 0.84,-16.37 3.38,-18.91 ; 0.84,-15.1 4.65,-18.91 ; 0.84,-13.83 5.92,-18.91 7.19,-18.91 ; 0.84,-12.56 7.19,-18.91 ; 0.84,-11.29 8.46,-18.91 11,-18.91 ; 0.84,-10.02 9.73,-18.91 ; 0.84,-8.75 11,-18.91 ; 0.84,-7.48 12.27,-18.91 ; 21.16,0.14 19.89,1.41 18.62,1.41 21.16,-1.13 21.16,-3.67 ; 0.84,1.41 21.16,-18.91 ; 0.84,1.41 0.84,-18.91 21.16,-18.91 ; 0.84,1.41 2.11,1.41 21.16,-17.64 21.16,-16.37 3.38,1.41 4.65,1.41 21.16,-15.1 21.16,-13.83 ; 0.84,1.41 21.16,1.41 21.16,-18.91 ; 7.19,-18.91 9.73,-18.91 ; 9.73,-18.91 12.27,-18.91 ; 11,-18.91 13.54,-18.91 ; 12.27,-18.91 13.54,-18.91 ; 13.54,-18.91 0.84,-6.21 0.84,-4.94 14.81,-18.91 16.08,-18.91 0.84,-3.67 0.84,-2.4 17.35,-18.91 18.62,-18.91 0.84,-1.13 0.84,0.14 19.89,-18.91 21.16,-18.91 ; 21.16,-13.83 21.16,-11.29 8.46,1.41 9.73,1.41 21.16,-10.02 21.16,-8.75 11,1.41 12.27,1.41 21.16,-7.48 21.16,-6.21 ; 21.16,-13.83 21.16,-12.56 7.19,1.41 5.92,1.41 21.16,-13.83 ; 21.16,-6.21 21.16,-3.67 ; 21.16,-6.21 21.16,-4.94 14.81,1.41 13.54,1.41 21.16,-6.21 ; 21.16,-3.67 21.16,-2.4 17.35,1.41 16.08,1.41 21.16,-3.67
Top Info:
  text "'.Comment'" at 2.503,-23.266 h2
3D body "LQFP144.step": height 1.6, standoff 0, extent 0,-19.75 22,2.25

## LQFP208 [mm]
pads (208):
  rect 1.5x0.3 smd: 1(0,0) 2(0,-0.5) 3(0,-1) 4(0,-1.5) 5(0,-2) 6(0,-2.5) 7(0,-3) 8(0,-3.5) 9(0,-4) 10(0,-4.5) 11(0,-5) 12(0,-5.5) 13(0,-6) 14(0,-6.5) 15(0,-7) 16(0,-7.5) 17(0,-8) 18(0,-8.5) 19(0,-9) 20(0,-9.5) 21(0,-10) 22(0,-10.5) 23(0,-11) 24(0,-11.5) 25(0,-12) 26(0,-12.5) 27(0,-13) 28(0,-13.5) 29(0,-14) 30(0,-14.5) 31(0,-15) 32(0,-15.5) 33(0,-16) 34(0,-16.5) 35(0,-17) 36(0,-17.5) 37(0,-18) 38(0,-18.5) 39(0,-19) 40(0,-19.5) 41(0,-20) 42(0,-20.5) 43(0,-21) 44(0,-21.5) 45(0,-22) 46(0,-22.5) 47(0,-23) 48(0,-23.5) 49(0,-24) 50(0,-24.5) 51(0,-25) 52(0,-25.5) 105(29.4,-25.5) 106(29.4,-25) 107(29.4,-24.5) 108(29.4,-24) 109(29.4,-23.5) 110(29.4,-23) 111(29.4,-22.5) 112(29.4,-22) 113(29.4,-21.5) 114(29.4,-21) 115(29.4,-20.5) 116(29.4,-20) 117(29.4,-19.5) 118(29.4,-19) 119(29.4,-18.5) 120(29.4,-18) 121(29.4,-17.5) 122(29.4,-17) 123(29.4,-16.5) 124(29.4,-16) 125(29.4,-15.5) 126(29.4,-15) 127(29.4,-14.5) 128(29.4,-14) 129(29.4,-13.5) 130(29.4,-13) 131(29.4,-12.5) 132(29.4,-12) 133(29.4,-11.5) 134(29.4,-11) 135(29.4,-10.5) 136(29.4,-10) 137(29.4,-9.5) 138(29.4,-9) 139(29.4,-8.5) 140(29.4,-8) 141(29.4,-7.5) 142(29.4,-7) 143(29.4,-6.5) 144(29.4,-6) 145(29.4,-5.5) 146(29.4,-5) 147(29.4,-4.5) 148(29.4,-4) 149(29.4,-3.5) 150(29.4,-3) 151(29.4,-2.5) 152(29.4,-2) 153(29.4,-1.5) 154(29.4,-1) 155(29.4,-0.5) 156(29.4,0)
  rect 0.3x1.5 smd: 53(1.95,-27.45) 54(2.45,-27.45) 55(2.95,-27.45) 56(3.45,-27.45) 57(3.95,-27.45) 58(4.45,-27.45) 59(4.95,-27.45) 60(5.45,-27.45) 61(5.95,-27.45) 62(6.45,-27.45) 63(6.95,-27.45) 64(7.45,-27.45) 65(7.95,-27.45) 66(8.45,-27.45) 67(8.95,-27.45) 68(9.45,-27.45) 69(9.95,-27.45) 70(10.45,-27.45) 71(10.95,-27.45) 72(11.45,-27.45) 73(11.95,-27.45) 74(12.45,-27.45) 75(12.95,-27.45) 76(13.45,-27.45) 77(13.95,-27.45) 78(14.45,-27.45) 79(14.95,-27.45) 80(15.45,-27.45) 81(15.95,-27.45) 82(16.45,-27.45) 83(16.95,-27.45) 84(17.45,-27.45) 85(17.95,-27.45) 86(18.45,-27.45) 87(18.95,-27.45) 88(19.45,-27.45) 89(19.95,-27.45) 90(20.45,-27.45) 91(20.95,-27.45) 92(21.45,-27.45) 93(21.95,-27.45) 94(22.45,-27.45) 95(22.95,-27.45) 96(23.45,-27.45) 97(23.95,-27.45) 98(24.45,-27.45) 99(24.95,-27.45) 100(25.45,-27.45) 101(25.95,-27.45) 102(26.45,-27.45) 103(26.95,-27.45) 104(27.45,-27.45) 157(27.45,1.95) 158(26.95,1.95) 159(26.45,1.95) 160(25.95,1.95) 161(25.45,1.95) 162(24.95,1.95) 163(24.45,1.95) 164(23.95,1.95) 165(23.45,1.95) 166(22.95,1.95) 167(22.45,1.95) 168(21.95,1.95) 169(21.45,1.95) 170(20.95,1.95) 171(20.45,1.95) 172(19.95,1.95) 173(19.45,1.95) 174(18.95,1.95) 175(18.45,1.95) 176(17.95,1.95) 177(17.45,1.95) 178(16.95,1.95) 179(16.45,1.95) 180(15.95,1.95) 181(15.45,1.95) 182(14.95,1.95) 183(14.45,1.95) 184(13.95,1.95) 185(13.45,1.95) 186(12.95,1.95) 187(12.45,1.95) 188(11.95,1.95) 189(11.45,1.95) 190(10.95,1.95) 191(10.45,1.95) 192(9.95,1.95) 193(9.45,1.95) 194(8.95,1.95) 195(8.45,1.95) 196(7.95,1.95) 197(7.45,1.95) 198(6.95,1.95) 199(6.45,1.95) 200(5.95,1.95) 201(5.45,1.95) 202(4.95,1.95) 203(4.45,1.95) 204(3.95,1.95) 205(3.45,1.95) 206(2.95,1.95) 207(2.45,1.95) 208(1.95,1.95)
Top Overlay:
  circle w0.2: c0,0.889 r0.1
  region: 1.1,0.85 1.1,-0.2 2.15,0.85
  lines w0.2: 1.1,-26.35 1.1,0.85 28.3,0.85 28.3,-26.35 1.1,-26.35
Top Draw:
  lines w0.2: 0.7,-25.25 2.2,-26.75 ; 0.7,-24.25 3.2,-26.75 ; 0.7,-23.25 4.2,-26.75 ; 0.7,-22.25 5.2,-26.75 ; 0.7,-21.25 6.2,-26.75 ; 0.7,-20.25 7.2,-26.75 ; 0.7,-19.25 8.2,-26.75 ; 0.7,-18.25 9.2,-26.75 ; 0.7,-17.25 10.2,-26.75 ; 0.7,-16.25 11.2,-26.75 ; 0.7,-15.25 12.2,-26.75 ; 0.7,-14.25 13.2,-26.75 ; 0.7,-13.25 14.2,-26.75 ; 0.7,-12.25 15.2,-26.75 ; 0.7,-11.25 16.2,-26.75 ; 0.7,-10.25 17.2,-26.75 ; 0.7,-9.25 18.2,-26.75 ; 0.7,-8.25 19.2,-26.75 ; 0.7,-7.25 20.2,-26.75 ; 0.7,-6.25 21.2,-26.75 ; 0.7,-5.25 22.2,-26.75 ; 0.7,-4.25 23.2,-26.75 ; 0.7,-3.25 24.2,-26.75 ; 0.7,-2.25 25.2,-26.75 ; 0.7,-1.25 26.2,-26.75 ; 0.7,-0.25 27.2,-26.75 ; 0.7,0.75 28.2,-26.75 ; 1.2,1.25 28.7,-26.25 ; 2.2,1.25 28.7,-25.25 ; 3.2,1.25 28.7,-24.25 ; 4.2,1.25 28.7,-23.25 ; 5.2,1.25 28.7,-22.25 ; 6.2,1.25 28.7,-21.25 ; 7.2,1.25 28.7,-20.25 ; 8.2,1.25 28.7,-19.25 ; 9.2,1.25 28.7,-18.25 ; 10.2,1.25 28.7,-17.25 ; 11.2,1.25 28.7,-16.25 ; 12.2,1.25 28.7,-15.25 ; 13.2,1.25 28.7,-14.25 ; 14.2,1.25 28.7,-13.25 ; 15.2,1.25 28.7,-12.25 ; 16.2,1.25 28.7,-11.25 ; 17.2,1.25 28.7,-10.25 ; 18.2,1.25 28.7,-9.25 ; 19.2,1.25 28.7,-8.25 ; 20.2,1.25 28.7,-7.25 ; 21.2,1.25 28.7,-6.25 ; 22.2,1.25 28.7,-5.25 ; 23.2,1.25 28.7,-4.25 ; 24.2,1.25 28.7,-3.25 ; 25.2,1.25 28.7,-2.25 ; 26.2,1.25 28.7,-1.25 ; 27.2,1.25 28.7,-0.25 ; 0.7,-26.75 28.7,-26.75 28.7,1.25 0.7,1.25 0.7,-26.75
Top Info:
  text "'.Comment'" at 6.203,-31.016 h2
3D body "TSQFP50P3000X3000X160-208N.step": height 1.6, standoff 0, extent -0.3,-27.75 29.7,2.25

## MSOP10 [mm] "Mini SO"
pads (10):
  rect 1.4x0.3 smd: 1(0,0) 2(0,-0.5) 3(0,-1) 4(0,-1.5) 5(0,-2) 6(4.4,-2) 7(4.4,-1.5) 8(4.4,-1) 9(4.4,-0.5) 10(4.4,0)
Top Overlay:
  circle w0.2: c0,0.762 r0.1
  region: 1.057,0.524 1.057,-0.27 1.851,0.524
  lines w0.2: 1.057,-2.524 3.343,-2.524 3.343,0.524 1.057,0.524 1.057,-2.524
Top Draw:
  lines w0.2: 0.8,-1.8 1.6,-2.6 ; 0.8,-1 2.4,-2.6 ; 0.8,-0.2 3.2,-2.6 ; 0.8,0.5 3.6,-2.3 ; 1.4,0.6 3.6,-1.6 ; 2.2,0.6 3.6,-0.8 ; 3,0.6 3.6,0 ; 0.8,-2.6 0.8,0.6 3.6,0.6 3.6,-2.6 0.8,-2.6
Top Info:
  text "'.Comment'" at 0.076,-3.324 h0.5
3D body "TSSOP50P490X110-10N.step": height 1.1, standoff 0, extent -0.25,-2.55 4.65,0.55

## MULTIWATT15-H [mm]
pads (16):
  oval 1.7x2.7 hole 1: 1(0,0) 2(1.27,3.81) 3(2.54,0) 4(3.81,3.81) 5(5.08,0) 6(6.35,3.81) 7(7.62,0) 8(8.89,3.81) 9(10.16,0) 10(11.43,3.81) 11(12.7,0) 12(13.97,3.81) 13(15.24,0) 14(16.51,3.81) 15(17.78,0)
  round 6 hole 3.9: ""(8.89,20.592)
Top Overlay:
  lines w0.2: -0.635,1.905 -0.635,6.35 -0.635,17.145 ; -0.635,6.096 0,6.096 ; -0.635,16.764 -0.635,17.145 ; -0.635,16.891 -0.635,16.51 18.415,16.51 18.415,16.891 18.415,19.431 18.415,20.701 18.415,21.971 ; -0.635,17.78 -0.635,18.161 -0.635,19.431 ; -0.635,21.971 -0.635,20.701 -0.635,19.685 ; -0.127,22.733 0.635,23.495 7.62,16.51 ; 0,16.51 7.62,24.13 ; 0,22.86 6.35,16.51 7.366,17.526 ; 1.27,16.51 -0.635,18.415 5.08,24.13 ; 1.27,16.637 5.334,20.701 ; 2.54,16.51 -0.635,19.685 ; 2.667,16.51 5.588,19.431 ; 5.334,21.336 2.54,24.13 ; 5.588,19.812 1.27,24.13 ; 5.715,22.225 3.81,24.13 ; 6.045,18.745 3.81,16.51 -0.635,20.955 2.54,24.13 ; 6.35,22.86 5.08,24.13 ; 6.604,18.034 5.08,16.51 -0.635,22.225 ; 6.985,23.495 6.35,24.13 ; 7.874,23.876 7.62,24.13 ; 8.03,17.37 8.89,16.51 9.75,17.37 ; 9.906,23.876 10.16,24.13 ; 10.16,16.51 17.145,23.495 ; 10.414,17.526 11.43,16.51 17.78,22.86 ; 10.795,23.495 11.43,24.13 ; 11.176,18.034 12.7,16.51 18.415,22.225 ; 11.43,22.86 12.7,24.13 ; 11.735,18.745 13.97,16.51 18.415,20.955 ; 12.065,22.225 13.97,24.13 ; 12.192,19.431 15.113,16.51 15.24,16.51 18.415,19.685 13.97,24.13 ; 12.192,19.812 16.51,24.13 ; 12.446,20.701 16.51,16.637 16.51,16.51 18.415,18.415 ; 12.446,21.336 15.24,24.13 ; 17.78,6.096 18.415,6.096 ; 17.78,16.51 10.16,24.13 ; 18.415,1.905 18.415,6.35 18.415,16.764 ; 18.415,18.161 18.415,16.764 ; 18.415,21.336 18.415,20.955 ; -0.635,17.145 6.35,24.13 ; -0.635,17.145 -0.635,22.225 ; -0.635,19.685 3.81,24.13 ; -0.635,22.225 1.27,24.13 ; 1.27,24.13 3.81,24.13 ; 1.27,24.13 8.89,24.13 ; 2.54,24.13 5.08,24.13 ; 3.81,24.13 6.35,24.13 ; 5.08,24.13 7.62,24.13 ; 6.35,24.13 8.89,24.13 ; 7.62,24.13 10.16,24.13 ; 8.89,24.13 11.43,24.13 ; 8.89,24.13 16.51,24.13 ; 10.16,24.13 12.7,24.13 ; 11.43,24.13 13.97,24.13 ; 11.43,24.13 18.415,17.145 ; 12.7,24.13 18.415,18.415 ; 12.7,24.13 15.24,24.13 ; 13.97,24.13 16.51,24.13 ; 15.24,24.13 18.415,20.955 ; 16.51,24.13 18.415,22.225 ; 18.415,16.764 18.415,22.225 ; 18.415,16.764 18.415,17.145 ; 18.415,17.145 18.415,18.415
Top Draw:
  lines w0.2: -0.762,10 2.126,7.112 2.5,7.112 ; -0.762,12.5 4.626,7.112 5,7.112 ; -0.762,15 7.126,7.112 7.5,7.112 ; -0.762,17.5 9.626,7.112 10,7.112 ; -0.762,20 12.126,7.112 ; 0.126,7.112 1,7.112 ; 0.562,23.676 17.126,7.112 18.415,7.112 17.771,7.112 ; 1.75,24.384 2.354,24.384 18.542,8.196 18.542,7.5 ; 3.75,24.384 4.854,24.384 18.542,10.696 18.542,10 18.542,15.696 ; 7.5,24.384 9.854,24.384 ; 12.75,24.384 14.854,24.384 18.542,20.696 18.542,18.196 ; 14.774,7.112 15,7.112 ; 15.5,7.112 14.638,7.112 -0.682,22.432 ; 18.542,12.5 18.542,13.196 7.354,24.384 1.27,24.384 ; -0.682,22.432 1.27,24.384 ; -0.682,22.432 -0.762,22.352 -0.762,7.112 18.542,7.112 18.542,22.352 16.51,24.384 1.27,24.384 ; 9.854,24.384 12.354,24.384 18.542,18.196 ; 9.854,24.384 18.542,15.696 ; 12.126,7.112 12.5,7.112 12.126,7.112 ; 18.542,15.696 18.542,18.196
Top Info:
  text "'.Comment'" at 0.393,-4.341 h2
3D body: height 0.05, standoff 0, extent 0.317,8.255 8.89,15.748
3D body: height 0.05, standoff 0, extent 8.89,8.255 17.463,15.748
3D body: height 1, standoff 0, extent -0.635,15.748 18.415,23.495
3D body: height 1, standoff 0.05, extent -0.635,7.112 18.415,15.748
3D body: height 2.5, standoff -2.5, extent 0.92,3.455 1.62,13.455
3D body: height 2.5, standoff -2.5, extent 3.46,3.455 4.16,13.455
3D body: height 2.5, standoff -2.5, extent 6,3.455 6.7,13.455
3D body: height 2.5, standoff -2.5, extent 8.54,3.455 9.24,13.455
3D body: height 2.5, standoff -2.5, extent 11.08,3.455 11.78,13.455
3D body: height 2.5, standoff -2.5, extent 13.62,3.455 14.32,13.455
3D body: height 2.5, standoff -2.5, extent 16.16,3.455 16.86,13.455
3D body: height 2.5, standoff -2.5, extent -0.35,-0.355 0.35,9.645
3D body: height 2.5, standoff -2.5, extent 2.19,-0.355 2.89,9.645
3D body: height 2.5, standoff -2.5, extent 4.73,-0.355 5.43,9.645
3D body: height 2.5, standoff -2.5, extent 7.27,-0.355 7.97,9.645
3D body: height 2.5, standoff -2.5, extent 9.81,-0.355 10.51,9.645
3D body: height 2.5, standoff -2.5, extent 12.35,-0.355 13.05,9.645
3D body: height 2.5, standoff -2.5, extent 14.89,-0.355 15.59,9.645
3D body: height 2.5, standoff -2.5, extent 17.43,-0.355 18.13,9.645
3D body: height 4, standoff 1, extent -0.635,7.112 18.415,15.748
3D body: height 1.05, standoff 1, extent 17.653,11.176 17.907,11.938
3D body: height 1.05, standoff 1, extent -0.127,11.176 0.127,11.938

## MULTIWATT15-V [mm]
pads (15):
  oval 1.7x2.7 hole 1: 1(0,0) 2(1.27,-3.175) 3(2.54,0) 4(3.81,-3.175) 5(5.08,0) 6(6.35,-3.175) 7(7.62,0) 8(8.89,-3.175) 9(10.16,0) 10(11.43,-3.175) 11(12.7,0) 12(13.97,-3.175) 13(15.24,0) 14(16.51,-3.175) 15(17.78,0)
Top Overlay:
  lines w0.2: -1.27,1.905 -1.27,2.54 19.05,2.54 19.05,1.905 ; -1.27,1.905 19.05,1.905 ; -1.27,1.905 -1.27,-5.08 19.05,-5.08 19.05,1.905
Top Draw:
  lines w0.2: -1.27,-3.175 0.635,-5.08 ; -1.27,-1.27 2.54,-5.08 ; -1.27,0.635 4.445,-5.08 ; 0.635,2.54 8.255,-5.08 ; 2.54,2.54 10.16,-5.08 ; 4.445,2.54 12.065,-5.08 ; 6.35,-5.08 -1.27,2.54 ; 6.35,2.54 13.97,-5.08 ; 8.255,2.54 15.875,-5.08 ; 10.16,2.54 17.78,-5.08 ; 12.065,2.54 19.05,-4.445 ; 13.97,2.54 19.05,-2.54 ; 15.875,2.54 19.05,-0.635 ; 17.78,2.54 19.05,1.27 ; -1.27,2.54 19.05,2.54 19.05,-5.08 -1.27,-5.08 -1.27,2.54
Top Info:
  text "'.Comment'" at 0.393,-8.151 h2
3D body: height 10, standoff -3, extent -0.35,-0.25 0.35,0.25
3D body: height 7, standoff -3, extent 0.92,-3.429 1.62,0.259
3D body: height 8, standoff -3, extent 2.19,-0.25 2.89,0.25
3D body: height 7, standoff -3, extent 3.46,-3.429 4.16,0.259
3D body: height 8, standoff -3, extent 4.73,-0.25 5.43,0.25
3D body: height 7, standoff -3, extent 6,-3.429 6.7,0.259
3D body: height 8, standoff -3, extent 7.27,-0.25 7.97,0.25
3D body: height 7, standoff -3, extent 8.54,-3.429 9.24,0.259
3D body: height 8, standoff -3, extent 9.81,-0.25 10.51,0.25
3D body: height 7, standoff -3, extent 11.08,-3.429 11.78,0.259
3D body: height 8, standoff -3, extent 12.35,-0.25 13.05,0.25
3D body: height 7, standoff -3, extent 13.62,-3.429 14.32,0.259
3D body: height 8, standoff -3, extent 14.89,-0.25 15.59,0.25
3D body: height 7, standoff -3, extent 16.16,-3.429 16.86,0.259
3D body: height 10, standoff -3, extent 17.43,-0.25 18.13,0.25
3D body: height 12.32, standoff 4.82, extent 0.325,2 8.897,2.05
3D body: height 12.32, standoff 4.82, extent 8.897,2 17.47,2.05
3D body: height 12.32, standoff 3.68, extent -0.635,-1.905 18.415,1.095
3D body: height 12.32, standoff 3.68, extent -0.635,1.095 18.415,2.045
3D body: height 20.02, standoff 12.28, extent -0.635,1.05 18.415,2.05

## PQFN16 [mm]
height 0.8
pads (17):
  rect 0.7x0.35 smd: 1(0,0) 2(0,-0.5) 3(0,-1) 4(0,-1.5) 9(2.9,-1.5) 10(2.9,-1) 11(2.9,-0.5) 12(2.9,0)
  rect 0.35x0.7 smd: 5(0.7,-2.2) 6(1.2,-2.2) 7(1.7,-2.2) 8(2.2,-2.2) 13(2.2,0.7) 14(1.7,0.7) 15(1.2,0.7) 16(0.7,0.7)
  rect 1.7x1.7 smd: ""(1.45,-0.75)
via 1.45,-0.75 diameter 0.3 hole 0.1
via 0.95,-0.75 diameter 0.3 hole 0.1
via 1.95,-0.75 diameter 0.3 hole 0.1
via 1.95,-0.25 diameter 0.3 hole 0.1
via 1.45,-0.25 diameter 0.3 hole 0.1
via 0.95,-0.25 diameter 0.3 hole 0.1
via 0.95,-1.25 diameter 0.3 hole 0.1
via 1.45,-1.25 diameter 0.3 hole 0.1
via 1.95,-1.25 diameter 0.3 hole 0.1
Top Overlay:
  circle w0.2: c-0.8,0.5 r0.1
  lines w0.2: -0.25,-2.05 -0.25,-2.45 0.15,-2.45 ; -0.25,0.55 -0.25,0.95 0.15,0.95 ; 2.75,-2.45 3.15,-2.45 3.15,-2.05 ; 2.75,0.95 3.15,0.95 3.15,0.55
Top Draw:
  lines w0.2: -0.241,-1.537 0.66,-2.438 ; -0.241,-0.648 1.537,-2.426 ; -0.241,0.241 2.413,-2.438 ; -0.05,0.95 3.15,-2.25 ; 0.838,0.94 3.15,-1.372 ; 1.726,0.93 3.15,-0.494 3.15,-0.75 ; 2.615,0.919 3.139,0.395 ; -0.25,-2.45 3.15,-2.45 3.15,0.95 -0.25,0.95 -0.25,-2.45
Top Info:
  text "'.Comment'" at -0.381,-3.302 h0.5
3D body "PQFN16.step": height 0.8, standoff 0, extent -0.125,-2.325 3.025,0.825